# Altium footprint library RES1206.PcbLib: 1 footprints
Each footprint in its own frame and in the unit in brackets; x right, y up, seen from the top. Pads: shape width x height; smd on the part's side, far side on the other; paste and mask are expansions set on the pad; w line width, h text height; cw(c..) or ccw(c..) is an arc to the next point about the centre after c.
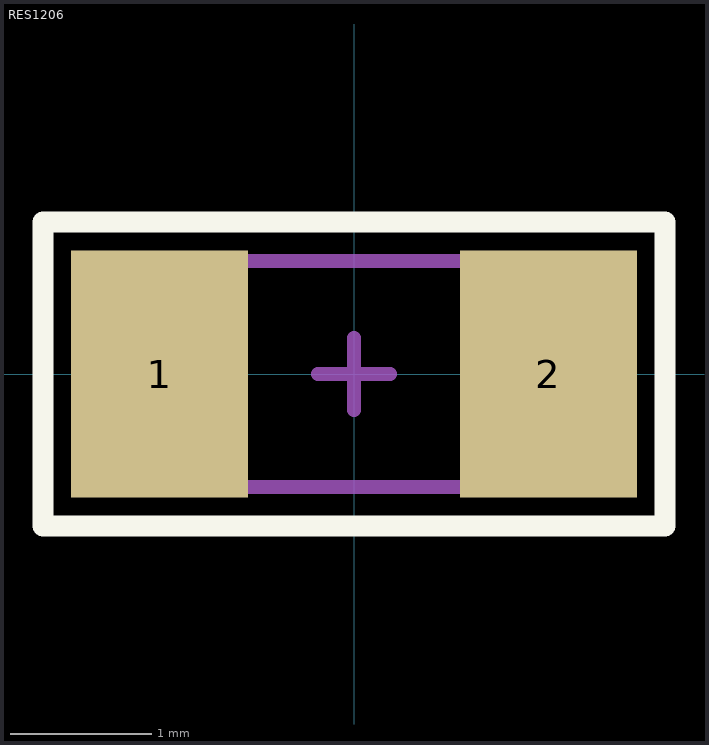
[diagram p0: the footprint, top view; thin cyan lines are the x and y axes]

## RES1206 [mm] "Generic 1206 PCB Footprint"
pads (2):
  rect 1.25x1.75 smd mask+0: 1(-1.375,0) 2(1.375,0)
Top Overlay:
  lines w0.15: -2.2,-1.075 2.2,-1.075 2.2,1.075 -2,1.075 -2.2,1.075 -2.2,-1.075
Top Designator:
  text ".Designator" at -7.618,-0.508 h1.52
Mechanical 13:
  lines w0.1: -1.6,-0.8 -1.6,0.8 1.6,0.8 1.6,-0.8 -1.6,-0.8
Mechanical 15:
  lines w0.1: -0.254,0 0.254,0 ; 0,-0.254 0,0.254
3D body "RES1206.stp": height 0.6, standoff 0, extent -1.6,-0.8 1.6,0.8